# EAGLE library part AVR-ATMEGA168-DIP28 (library tidyeagle)
Atmel 8-bit Microcontroller in DIP28 package. Datasheet: Summary <http://www.atmel.com/dyn/resources/prod_documents/8271S.pdf>, Full <http://www.atmel.com/dyn/resources/prod_documents/doc8271.pdf> Application Notes: AVR042 - Hardware Design Considerations <http://atmel.com/dyn/resources/prod_documents/doc2521.pdf> Supports the following chips - ATmega48PA ATmega88PA ATmega168PA ATmega328P With Arduino pin labelling.
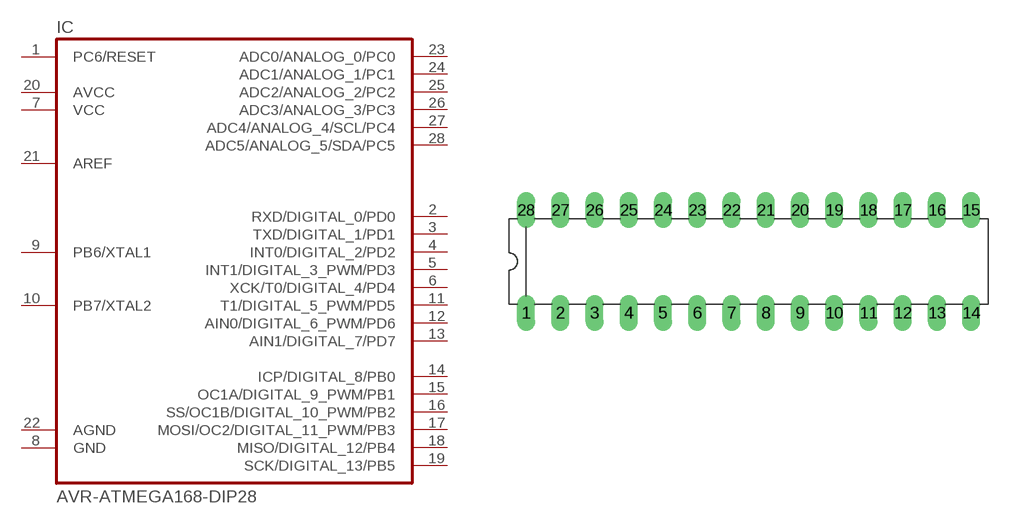
[diagram p0: symbol with the pads of DIL28-3; footprint DIL28-3]

Designator prefix IC

## AVR-ATMEGA168-DIP28  [DIL28-3]
1  PC6/RESET
2  RXD/DIGITAL_0/PD0
3  TXD/DIGITAL_1/PD1
4  INT0/DIGITAL_2/PD2
5  INT1/DIGITAL_3_PWM/PD3
6  XCK/T0/DIGITAL_4/PD4
7  VCC  pwr
8  GND  pwr
9  PB6/XTAL1
10  PB7/XTAL2
11  T1/DIGITAL_5_PWM/PD5
12  AIN0/DIGITAL_6_PWM/PD6
13  AIN1/DIGITAL_7/PD7
14  ICP/DIGITAL_8/PB0
15  OC1A/DIGITAL_9_PWM/PB1
16  SS/OC1B/DIGITAL_10_PWM/PB2
17  MOSI/OC2/DIGITAL_11_PWM/PB3
18  MISO/DIGITAL_12/PB4
19  SCK/DIGITAL_13/PB5
20  AVCC  pwr
21  AREF
22  AGND  pwr
23  ADC0/ANALOG_0/PC0
24  ADC1/ANALOG_1/PC1
25  ADC2/ANALOG_2/PC2
26  ADC3/ANALOG_3/PC3
27  ADC4/ANALOG_4/SCL/PC4
28  ADC5/ANALOG_5/SDA/PC5

## Footprint DIL28-3 (pad centres in mm)
Dual In Line 0.3 inch
drill 0.813 long: 1 -16.51,-3.81; 2 -13.97,-3.81; 3 -11.43,-3.81; 4 -8.89,-3.81; 5 -6.35,-3.81; 6 -3.81,-3.81; 7 -1.27,-3.81; 8 1.27,-3.81; 9 3.81,-3.81; 10 6.35,-3.81; 11 8.89,-3.81; 12 11.43,-3.81; 13 13.97,-3.81; 14 16.51,-3.81; 15 16.51,3.81; 16 13.97,3.81; 17 11.43,3.81; 18 8.89,3.81; 19 6.35,3.81; 20 3.81,3.81; 21 1.27,3.81; 22 -1.27,3.81; 23 -3.81,3.81; 24 -6.35,3.81; 25 -8.89,3.81; 26 -11.43,3.81; 27 -13.97,3.81; 28 -16.51,3.81